# Altium schematic symbol library Ultrascale.SCHLIB: 117 symbols (part 1 of 3)
Pins are listed as number, name and electrical type; pins without a type are passive.

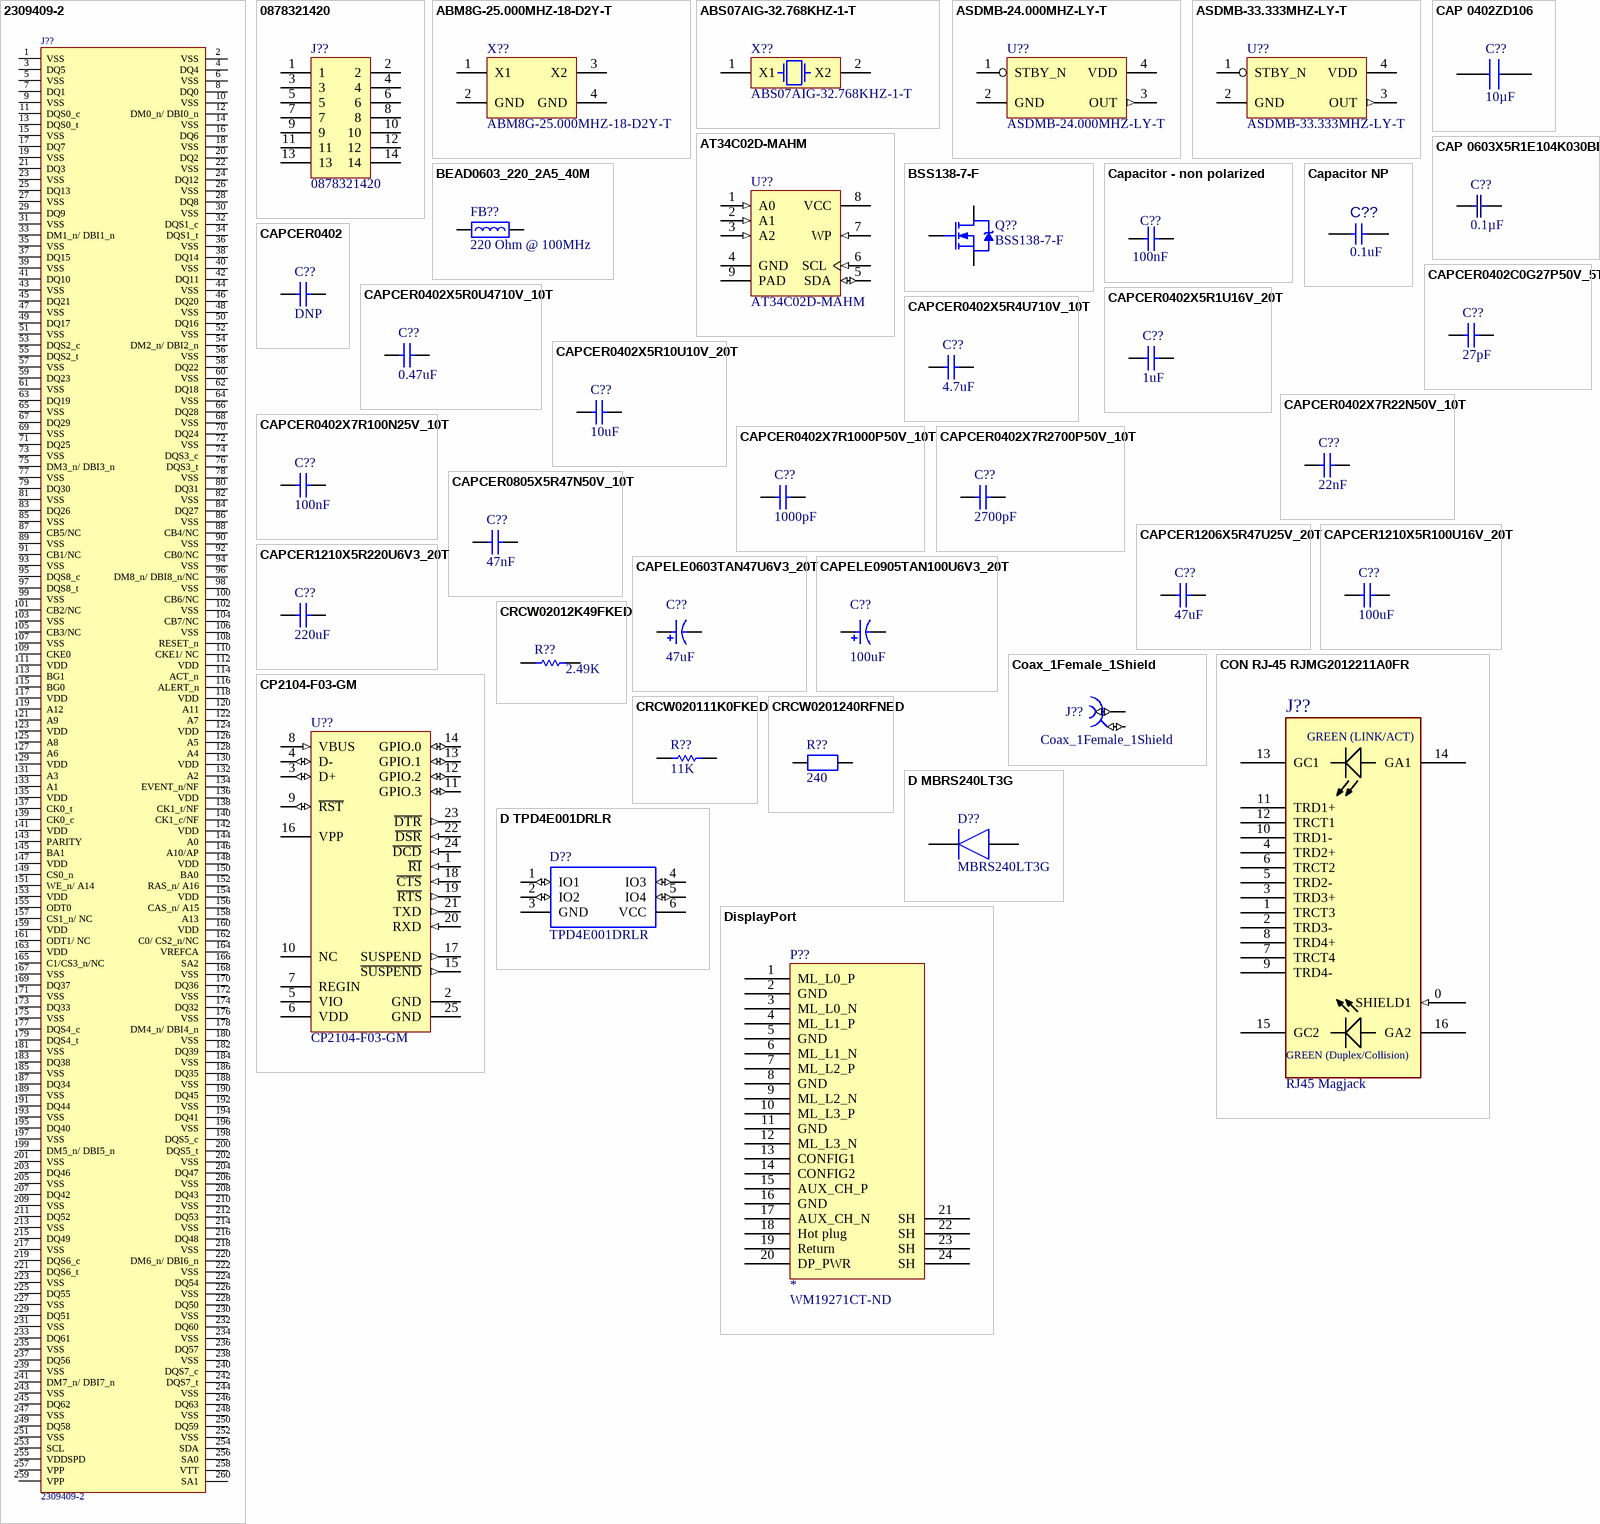
[diagram p0: symbols 2309409-2 to DisplayPort]

## 2309409-2
designator J??
DDR4 SODIMM 260P 5.2H STD; Manufacturer: TE CONNECTIVITY; ComponentLink1Description: Datasheet; ComponentLink1URL: C:\Users\Public\Documents\Altium\AD16\Library\PDF\ENG_CD_2309409_3.pdf; Operating Temperature: -55 – 85 °C; Height: 5.2mm; Manufacturer Part Number: 2309409-2
footprint DDR4_SODIMM_MATING (REF: TE 2309409-4)
pins: 1 VSS (power), 2 VSS (power), 3 DQ5 (power), 4 DQ4 (power), 5 VSS (power), 6 VSS (power), 7 DQ1 (power), 8 DQ0 (power), 9 VSS (power), 10 VSS (power), 11 DQS0_c (power), 12 DM0_n/ DBI0_n (power), 13 DQS0_t (power), 14 VSS (power), 15 VSS (power), 16 DQ6 (power), 17 DQ7 (power), 18 VSS (power), 19 VSS (power), 20 DQ2 (power), 21 DQ3 (power), 22 VSS (power), 23 VSS (power), 24 DQ12 (power), 25 DQ13 (power), 26 VSS (power), 27 VSS (power), 28 DQ8 (power), 29 DQ9 (power), 30 VSS (power), 31 VSS (power), 32 DQS1_c (power), 33 DM1_n/ DBI1_n (power), 34 DQS1_t (power), 35 VSS (power), 36 VSS (power), 37 DQ15 (power), 38 DQ14 (power), 39 VSS (power), 40 VSS (power), 41 DQ10 (power), 42 DQ11 (power), 43 VSS (power), 44 VSS (power), 45 DQ21 (power), 46 DQ20 (power), 47 VSS (power), 48 VSS (power), 49 DQ17 (power), 50 DQ16 (power), 51 VSS (power), 52 VSS (power), 53 DQS2_c (power), 54 DM2_n/ DBI2_n (power), 55 DQS2_t (power), 56 VSS (power), 57 VSS (power), 58 DQ22 (power), 59 DQ23 (power), 60 VSS (power), 61 VSS (power), 62 DQ18 (power), 63 DQ19 (power), 64 VSS (power), 65 VSS (power), 66 DQ28 (power), 67 DQ29 (power), 68 VSS (power), 69 VSS (power), 70 DQ24 (power), 71 DQ25 (power), 72 VSS (power), 73 VSS (power), 74 DQS3_c (power), 75 DM3_n/ DBI3_n (power), 76 DQS3_t (power), 77 VSS (power), 78 VSS (power), 79 DQ30 (power), 80 DQ31 (power), 81 VSS (power), 82 VSS (power), 83 DQ26 (power), 84 DQ27 (power), 85 VSS (power), 86 VSS (power), 87 CB5/NC (power), 88 CB4/NC (power), 89 VSS (power), 90 VSS (power), 91 CB1/NC (power), 92 CB0/NC (power), 93 VSS (power), 94 VSS (power), 95 DQS8_c (power), 96 DM8_n/ DBI8_n/NC (power), 97 DQS8_t (power), 98 VSS (power), 99 VSS (power), 100 CB6/NC (power), 101 CB2/NC (power), 102 VSS (power), 103 VSS (power), 104 CB7/NC (power), 105 CB3/NC (power), 106 VSS (power), 107 VSS (power), 108 RESET_n (power), 109 CKE0 (power), 110 CKE1/ NC (power), 111 VDD (power), 112 VDD (power), 113 BG1 (power), 114 ACT_n (power), 115 BG0 (power), 116 ALERT_n (power), 117 VDD (power), 118 VDD (power), 119 A12 (power), 120 A11 (power), 121 A9 (power), 122 A7 (power), 123 VDD (power), 124 VDD (power), 125 A8 (power), 126 A5 (power), 127 A6 (power), 128 A4 (power), 129 VDD (power), 130 VDD (power), 131 A3 (power), 132 A2 (power), 133 A1 (power), 134 EVENT_n/NF (power), 135 VDD (power), 136 VDD (power), 137 CK0_t (power), 138 CK1_t/NF (power), 139 CK0_c (power), 140 CK1_c/NF (power), 141 VDD (power), 142 VDD (power), 143 PARITY (power), 144 A0 (power), 145 BA1 (power), 146 A10/AP (power), 147 VDD (power), 148 VDD (power), 149 CS0_n (power), 150 BA0 (power), 151 WE_n/ A14 (power), 152 RAS_n/ A16 (power), 153 VDD (power), 154 VDD (power), 155 ODT0 (power), 156 CAS_n/ A15 (power), 157 CS1_n/ NC (power), 158 A13 (power), 159 VDD (power), 160 VDD (power), 161 ODT1/ NC (power), 162 C0/ CS2_n/NC (power), 163 VDD (power), 164 VREFCA (power), 165 C1/CS3_n/NC (power), 166 SA2 (power), 167 VSS (power), 168 VSS (power), 169 DQ37 (power), 170 DQ36 (power), 171 VSS (power), 172 VSS (power), 173 DQ33 (power), 174 DQ32 (power), 175 VSS (power), 176 VSS (power), 177 DQS4_c (power), 178 DM4_n/ DBI4_n (power), 179 DQS4_t (power), 180 VSS (power), 181 VSS (power), 182 DQ39 (power), 183 DQ38 (power), 184 VSS (power), 185 VSS (power), 186 DQ35 (power), 187 DQ34 (power), 188 VSS (power), 189 VSS (power), 190 DQ45 (power), 191 DQ44 (power), 192 VSS (power), 193 VSS (power), 194 DQ41 (power), 195 DQ40 (power), 196 VSS (power), 197 VSS (power), 198 DQS5_c (power), 199 DM5_n/ DBI5_n (power), 200 DQS5_t (power), 201 VSS (power), 202 VSS (power), 203 DQ46 (power), 204 DQ47 (power), 205 VSS (power), 206 VSS (power), 207 DQ42 (power), 208 DQ43 (power), 209 VSS (power), 210 VSS (power), 211 DQ52 (power), 212 DQ53 (power), 213 VSS (power), 214 VSS (power), 215 DQ49 (power), 216 DQ48 (power), 217 VSS (power), 218 VSS (power), 219 DQS6_c (power), 220 DM6_n/ DBI6_n (power), 221 DQS6_t (power), 222 VSS (power), 223 VSS (power), 224 DQ54 (power), 225 DQ55 (power), 226 VSS (power), 227 VSS (power), 228 DQ50 (power), 229 DQ51 (power), 230 VSS (power), 231 VSS (power), 232 DQ60 (power), 233 DQ61 (power), 234 VSS (power), 235 VSS (power), 236 DQ57 (power), 237 DQ56 (power), 238 VSS (power), 239 VSS (power), 240 DQS7_c (power), 241 DM7_n/ DBI7_n (power), 242 DQS7_t (power), 243 VSS (power), 244 VSS (power), 245 DQ62 (power), 246 DQ63 (power), 247 VSS (power), 248 VSS (power), 249 DQ58 (power), 250 DQ59 (power), 251 VSS (power), 252 VSS (power), 253 SCL (power), 254 SDA (power), 255 VDDSPD (power), 256 SA0 (power), 257 VPP (power), 258 VTT (power), 259 VPP (power), 260 SA1 (power)

## 0878321420
designator J??
CONN HEADER 14POS 2MM VERT SMD; Manufacturer: Molex, LLC; Number of Positions: 14; Supplier 1: Digi-Key; Pitch: 2mm; Number of Rows: 2; ComponentLink1URL: C:\Users\Public\Documents\Altium\AD16\Library\PDF\878322620_sd.pdf; ComponentLink1Description: Drawing; Supplier Part Number 1: 952-1809-ND; Manufacturer Part Number: 0878321420
footprint 0878321420 (CONN HEADER 14POS 2MM VERT SMD)
pins: 1 (power), 2 (power), 3 (power), 4 (power), 5 (power), 6 (power), 7 (power), 8 (power), 9 (power), 10 (power), 11 (power), 12 (power), 13 (power), 14 (power)

## ABM8G-25.000MHZ-18-D2Y-T
designator X??
CRYSTAL 25.0000MHZ 18PF SMD; Manufacturer: Abracon LLC; Frequency: 25MHz; Frequency Stability: ±30ppm; ComponentLink1Description: Datasheet; ComponentLink1URL: C:\Users\Public\Documents\Altium\AD16\Library\PDF\ABM8G.pdf; Supplier 1: Digi-Key; Supplier Part Number 1: 535-10275-1-ND; Operating Temperature: -40°C ~ 85°C; Load Capacitance: 18pF; Manufacturer Part Number: ABM8G-25.000MHZ-18-D2Y-T
footprint ABM8G (Abracon ABM8G Series Crystals)
pins: 1 X1, 2 GND, 3 X2, 4 GND

## ABS07AIG-32.768KHZ-1-T
designator X??
CRYSTAL 32.768KHZ 12.5PF SMD; Manufacturer: Abracon LLC; Frequency Tolerance: ±10ppm; ComponentLink1Description: Datasheet; ComponentLink1URL: C:\Users\Public\Documents\Altium\AD16\Library\PDF\ABS07.pdf; Supplier 1: Digi-Key; Supplier Part Number 1: 535-13352-1-ND; Operating Temperature: -40°C ~ 125°C; Load Capacitance: 12.5pF; Frequency: 32.768kHz; Manufacturer Part Number: ABS07AIG-32.768KHZ-1-T
footprint ABS07 (Abracon ABS07 Series Crystals)
pins: 1 X1, 2 X2

## ASDMB-24.000MHZ-LY-T
designator U??
OSC MEMS 24.000MHZ CMOS SMD; Manufacturer: Abracon LLC; Frequency: 24MHz; Frequency Stability: ±10ppm; ComponentLink1Description: Datasheet; ComponentLink1URL: C:\Users\Public\Documents\Altium\AD16\Library\PDF\ASDMB.pdf; Supplier 1: Digi-Key; Supplier Part Number 1: 535-11186-1-ND; Operating Temperature: -40°C ~ 85°C; Manufacturer Part Number: ASDMB-24.000MHZ-LY-T
footprint ASDMB (Abracon ASDMB Series Oscillators)
pins: 1 STBY_N, 2 GND, 3 OUT (out), 4 VDD

## ASDMB-33.333MHZ-LY-T
designator U??
OSC MEMS 33.333MHZ CMOS SMD; Manufacturer: Abracon LLC; Frequency Stability: ±10ppm; ComponentLink1Description: Datasheet; ComponentLink1URL: C:\Users\Public\Documents\Altium\AD16\Library\PDF\ASDMB.pdf; Supplier 1: Digi-Key; Supplier Part Number 1: 535-11196-1-ND; Operating Temperature: -40°C ~ 85°C; Frequency: 33.333MHz; Manufacturer Part Number: ASDMB-33.333MHZ-LY-T
footprint ASDMB (Abracon ASDMB Series Oscillators)
pins: 1 STBY_N, 2 GND, 3 OUT (out), 4 VDD

## AT34C02D-MAHM
designator U??
IC EEPROM 2KBIT 1MHZ 8UDFN; Manufacturer: Microchip Technology; Manufacturer Part Number: AT34C02D-MAHM-T; Code_JEDEC: MS-012-AA; Code_IPC: SOIC127P600-8; ComponentLink1Description: Datasheet; ComponentLink1URL: C:\Users\Public\Documents\Altium\AD16\Library\PDF\Atmel-8781-SEEPROM-AT34C02D-Datasheet.pdf; Supplier 1: Digikey; Supplier Part Number 1: AT34C02D-MAHM-TTR-ND; Operating Temperature: -40°C ~ 85°C (TA)
footprint UDFN_9 (UDFN, 8-Leads, Body 3x2mm, Pitch 0.5mm)
pins: 1 A0 (in), 2 A1 (in), 3 A2 (in), 4 GND (power), 5 SDA (io), 6 SCL (in), 7 WP (in), 8 VCC (power), 9 PAD (power)

## BEAD0603_220_2A5_40M
designator FB??  Impedance @ Frequency: 220 Ohm @ 100MHz
FERRITE BEAD 220 OHM 0603 1LN; Manufacturer: Murata Electronics North America; Manufacturer Part Number: BLM18SG221TN1D; Current Rating (Max): 2.5A; DC Resistance (DCR) (Max): 40 mohm; Package: 0603; ComponentLink1Description: Datasheet; ComponentLink1URL: C:\Users\Public\Documents\Altium\AD16\Library\PDF\ENFA0003.pdf; Supplier 1: Digi-Key; Supplier Part Number 1: 490-5225-1-ND; Operating Temperature: -55°C ~ 125°C
footprint INDC1608N_0603 (Chip Inductor, Body 1.6x0.8mm, IPC Medium Density)
pins: 1, 2

## BSS138-7-F
designator Q??
MOSFET N-CH 50V 200MA SOT23-3; Manufacturer: Diodes Incorporated; ComponentLink1Description: Datasheet; ComponentLink1URL: C:\Users\Public\Documents\Altium\AD16\Library\PDF\ds30144.pdf; Supplier 1: Digi-Key; Supplier Part Number 1: BSS138-FDICT-ND; Operating Temperature: -55°C ~ 150°C (TJ); Manufacturer Part Number: BSS138-7-F
footprint DIODES_SOT23 (SOT23, 3-Leads, Body 2.9x1.3 mm, Pitch 0.95 mm)
pins: D, G, S

## CAP 0402ZD106
designator C??, comment value 10µF  (hidden comment: 0402ZD106MAT2A)
CAP CER 10UF 10V X5R 0402; Manufacturer: AVX; Geometry.Height: 0.56mm; Detailed Description: 10µF ±20% 10V Ceramic Capacitor X5R 0402 (1005 Metric); Tolerance: ±20%; Datasheet Link: http://www.mouser.com/catalog/supplier/library/pdf/AVXSurfaceMountCeramic.pdf; Digi-Key Part Number: 478-10052-1-ND; Voltage - Rated: 10V; Temperature Coefficient: X5R; Operating Temperature: -55°C ~ 85°C; Mounting Type: Surface Mount, MLCC; Supplier 1: Digi-Key; Supplier Part Number 1: 478-10052-2-ND; Manufacturer Part Number: 0402ZD106MAT2A
footprint CAP 0402ZD106
pins: 1, 2

## CAP 0603X5R1E104K030BB
designator C??  value 0.1µF  (hidden comment: *)
CAP CER 0.1UF 25V 10% X5R 0201; Manufacturer: TDK Corporation; Manufacturer Part Number: C0603X5R1E104K030BB; Detailed Description: 0.1µF ±10% 25V Ceramic Capacitor X5R 0201 (0603 Metric); Digi-Key Part Number: 445-13671-1-ND; Tolerance: ±10%; Voltage - Rated: 25V; Temperature Coefficient: X5R; Operating Temperature: -55°C ~ 85°C; Features: Low ESL; Applications: General Purpose; Mounting Type: Surface Mount, MLCC; Supplier 1: Digi-Key; Supplier Part Number 1: 445-13671-1-ND
footprint CAP_0603
pins: 1, 2

## Capacitor - non polarized
designator C??, comment 100nF
Non-polarised capacitor CC0603_100NF_50V_10%_X7R; Part Description: SMD Multilayer Chip Ceramic Capacitor; Manufacturer: MULTICOMP; Manufacturer Part Number: MCB0603R104KCT; Manufacturer1 Part Number: 223858615649; Voltage: 50V; TC: X7R; Tolerance: ±10%; Table: Capacitors SMD; Voltage Rating: 16; Capacitance: 0.1; SVHC: No SVHC (17-Dec-2015); Ceramic Capacitor Case: 0603 [1608 Metric]; Dielectric Characteristic: X7; Product Range: MCB Series; Capacitance Tolerance: ± 10%; Capacitor Terminals: SMD; Part Number: CC0603_100NF_50V_10%_X7R; Component Kind: Standard; Component Type: Standard; Footprint: CAPC1608X87N; Pin Count: 2; Value: 100nF; Status: Preferred; Case: 0603; Mounted: Yes; Socket: No; SMD: Yes; Manufacturer1 Example: PHYCOMP; Manufacturer1 ComponentHeight: 0.87mm; HelpURL: \\cern.ch\dfs\Applications\Altium\Datasheets\CC0603_X7R_PHYCOMP.pdf; Author: CERN DEM JLC; CreateDate: 3.12.2007; LatestRevisionDate: 3.12.2007; RoHS: YES; Packaging: Cut Tape; Operating Temperature Min: -55; MSL: -; Supplier Part Number: 9406140; Operating Temperature Range: -55°C to +125°C<!--FANDB--><div class="features-and-benefits-container"><div class="features-and-benefits-description"><span class="features-benefits-value">The MCB0603R104KCT is a multilayer Ceramic Capacitor with 0603 chip, for general digital circuit. Consists of a conducting material and electrodes. To manufacture a chip-type SMT and achieve miniaturization, high density and high efficiency, ceramic condensers are used. MLCC is made by X7; Supplier: Farnell; Capacitance Tolerance ±: ± 10%; Operating Temperature Max: 125
footprint CAPC1608X87N
pins: 1, 2

## Capacitor NP
designator C??  value 0.1uF  (hidden comment: Capacitor NP)
Capacitor; Manufacturer: TDK Corporation; Manufacturer Part Number: C1005X7R1H104K050BB; MCHP-ID: CAP1463; Voltage: 50V; Description_: CAP CER 0.1uF 50V 10% X7R SMD 0402; Dev Tools Status: Design; Tolerance: 10%; Temperature Coeffcient: X7R; Type: Ceramic; Owner: Jamus Griego; Populated: YES; Package: 0402; Revision: A; Status: MCL Design; ComponentLink1URL: https://chn-vm-apps.microchip.com/mchprepo/parts/Datasheets/TDKMLCCCapRange.pdf; ComponentLink1Description: Datasheets; Operating Temperature: -55C to +125C; Category: Capacitor; Supplier 1: Digi-Key; Supplier Part Number 1: 445-5932-1-ND; Quantity Override: 1
footprint CAP_C_0402 (Chip Capacitor 2-Leads, Body 1.6x0.8mm, IPC Medium Density)
pins: 1, 2

## CAPCER0402
designator C??, comment DNP
0402 Package Cap Footprint; Manufacturer Part Number: CAPCER0402; Package: 0402; ComponentLink1Description: Datasheet; Value: DNP
simulation model CAP (Capacitor)
signal-integrity model Cap
footprint CAPC1005L_0402 (Chip Capacitor, Body 1.0x0.5mm, IPC High Density)
pins: 1, 2

## CAPCER0402C0G27P50V_5T
designator C??, comment 27pF
CAP CER 27PF 50V C0G/NP0 0402; Manufacturer: Murata Electronics North America; Manufacturer Part Number: GRM1555C1H270JA01D; Tolerance: 5%; Package: 0402; ComponentLink1Description: Datasheet; Value: 27pF; Voltage: 50V; Temperature Coefficient: C0G/NP0; Supplier 1: Digi-Key; Supplier Part Number 1: 490-5869-1-ND; Operating Temperature: -55°C ~ 125°C
simulation model CAP (Capacitor)
signal-integrity model Cap
footprint CAPC1005L_0402 (Chip Capacitor, Body 1.0x0.5mm, IPC High Density)
pins: 1, 2

## CAPCER0402X5R0U4710V_10T
designator C??, comment 0.47uF
CAP CER 0.47UF 10V X5R 0402; Manufacturer: Murata Electronics North America; Manufacturer Part Number: GRM155R61A474KE15D; Tolerance: 10%; Package: 0402; ComponentLink1Description: Datasheet; Value: 0.47uF; Voltage: 10V; Temperature Coefficient: X5R; Supplier 1: Digi-Key; Supplier Part Number 1: 490-3264-1-ND; Operating Temperature: -55°C ~ 85°C
simulation model CAP (Capacitor)
signal-integrity model Cap
footprint CAPC1005L_0402 (Chip Capacitor, Body 1.0x0.5mm, IPC High Density)
pins: 1, 2

## CAPCER0402X5R1U16V_20T
designator C??, comment 1uF
CAP CER 1UF 16V X5R 0402; Manufacturer: Murata Electronics North America; Manufacturer Part Number: GRM155R61C105ME01D; Tolerance: 20%; Package: 0402; ComponentLink1Description: Datasheet; Value: 1uF; Voltage: 16V; Temperature Coefficient: X5R; Supplier 1: Digi-Key; Supplier Part Number 1: 490-10454-1-ND; Operating Temperature: -55°C ~ 85°C
simulation model CAP (Capacitor)
signal-integrity model Cap
footprint CAPC1005L_0402 (Chip Capacitor, Body 1.0x0.5mm, IPC High Density)
pins: 1, 2

## CAPCER0402X5R4U710V_10T
designator C??, comment 4.7uF
CAP CER 4.7UF 10V X5R 0402; Manufacturer: TDK Corporation; Manufacturer Part Number: C1005X5R1A475K050BC; Tolerance: 10%; Package: 0402; ComponentLink1Description: Datasheet; Value: 4.7uF; Voltage: 10V; Temperature Coefficient: x5R; Supplier 1: Digi-Key; Supplier Part Number 1: 445-13820-1-ND; Operating Temperature: -55°C ~ 85°C
simulation model CAP (Capacitor)
signal-integrity model Cap
footprint CAPC1005L_0402 (Chip Capacitor, Body 1.0x0.5mm, IPC High Density)
pins: 1, 2

## CAPCER0402X5R10U10V_20T
designator C??, comment 10uF
CAP CER 10UF 10V X5R 0402; Manufacturer: Samsung Electro-Mechanics America, Inc.; Manufacturer Part Number: CL05A106MP5NUNC; Tolerance: 20%; Package: 0402; ComponentLink1Description: Datasheet; Value: 10uF; Voltage: 10V; Temperature Coefficient: X5R; Supplier 1: Digi-Key; Supplier Part Number 1: 1276-1450-1-ND; Operating Temperature: -55°C ~ 85°C
simulation model CAP (Capacitor)
signal-integrity model Cap
footprint CAPC1005L_0402 (Chip Capacitor, Body 1.0x0.5mm, IPC High Density)
pins: 1, 2

## CAPCER0402X7R22N50V_10T
designator C??, comment 22nF
CAP CER 0.022UF 50V X7R 0402; Manufacturer: Murata Electronics North America; Manufacturer Part Number: GRM155R71H223KA12D; Tolerance: 10%; Package: 0402; ComponentLink1Description: Datasheet; Value: 22nF; Voltage: 50V; Temperature Coefficient: X7R; Supplier 1: Digi-Key; Supplier Part Number 1: 490-3884-1-ND; Operating Temperature: -55°C ~ 125°C
simulation model CAP (Capacitor)
signal-integrity model Cap
footprint CAPC1005L_0402 (Chip Capacitor, Body 1.0x0.5mm, IPC High Density)
pins: 1, 2

## CAPCER0402X7R100N25V_10T
designator C??, comment 100nF
CAP CER 0.1UF 25V X7R 0402; Manufacturer: Murata Electronics North America; Manufacturer Part Number: GRM155R71E104KE14D; Tolerance: 10%; Package: 0402; ComponentLink1Description: Datasheet; Value: 100nF; Voltage: 25V; Temperature Coefficient: X7R; Supplier 1: Digi-Key; Supplier Part Number 1: 490-10698-1-ND; Operating Temperature: -55°C ~ 125°C
simulation model CAP (Capacitor)
signal-integrity model Cap
footprint CAPC1005L_0402 (Chip Capacitor, Body 1.0x0.5mm, IPC High Density)
pins: 1, 2

## CAPCER0402X7R1000P50V_10T
designator C??, comment 1000pF
CAP CER 1000PF 50V X7R 0402; Manufacturer: Murata Electronics North America; Manufacturer Part Number: GRM155R71H102KA01D; Tolerance: 10%; Package: 0402; ComponentLink1Description: Datasheet; Value: 1000pF; Voltage: 50V; Temperature Coefficient: X7R; Supplier 1: Digi-Key; Supplier Part Number 1: 490-1303-1-ND; Operating Temperature: -55°C ~ 125°C
simulation model CAP (Capacitor)
signal-integrity model Cap
footprint CAPC1005L_0402 (Chip Capacitor, Body 1.0x0.5mm, IPC High Density)
pins: 1, 2

## CAPCER0402X7R2700P50V_10T
designator C??, comment 2700pF
CAP CER 2700PF 50V X7R 0402; Manufacturer: Murata Electronics North America; Manufacturer Part Number: GRM155R71H272KA01D; Tolerance: 10%; Package: 0402; ComponentLink1Description: Datasheet; Value: 2700pF; Voltage: 50V; Temperature Coefficient: X7R; Supplier 1: Digi-Key; Supplier Part Number 1: 490-1306-1-ND; Operating Temperature: -55°C ~ 125°C
simulation model CAP (Capacitor)
signal-integrity model Cap
footprint CAPC1005L_0402 (Chip Capacitor, Body 1.0x0.5mm, IPC High Density)
pins: 1, 2

## CAPCER0805X5R47N50V_10T
designator C??, comment 47nF
CAP CER 0.047UF 50V X7R 0805; Manufacturer: Kemet; Manufacturer Part Number: C0805C473K5RACTU; Tolerance: 10%; Package: 0805; ComponentLink1Description: Datasheet; Value: 47nF; Voltage: 50V; Temperature Coefficient: X7R; Supplier 1: Digi-Key; Supplier Part Number 1: 399-1166-1-ND; Operating Temperature: -55°C ~ 125°C
simulation model CAP (Capacitor)
signal-integrity model Cap
footprint CAPC2012L_0805 (Chip Capacitor, Body 2.0x1.3mm, IPC High Density)
pins: 1, 2

## CAPCER1206X5R47U25V_20T
designator C??, comment 47uF
CAP CER 47UF 25V X5R 1206; Manufacturer: TDK Corporation; Manufacturer Part Number: C3216X5R1E476M160AC; Tolerance: 20%; Package: 1206; ComponentLink1Description: Datasheet; Value: 47uF; Voltage: 25V; Temperature Coefficient: X5R; Supplier 1: Digi-Key; Supplier Part Number 1: 445-8047-1-ND; Operating Temperature: -55°C ~ 85°C
simulation model CAP (Capacitor)
signal-integrity model Cap
footprint CAPC3216L_1206 (Chip Capacitor, Body 3.2x1.6mm, IPC High Density)
pins: 1, 2

## CAPCER1210X5R100U16V_20T
designator C??, comment 100uF
CAP CER 100UF 16V X5R 1210; Manufacturer: Taiyo Yuden; Manufacturer Part Number: EMK325ABJ107MM-T; Tolerance: 20%; Package: 1210; ComponentLink1Description: Datasheet; Value: 100uF; Voltage: 16V; Temperature Coefficient: X5R; Supplier 1: Digi-Key; Supplier Part Number 1: 587-3152-1-ND; Operating Temperature: -55°C ~ 85°C
simulation model CAP (Capacitor)
signal-integrity model Cap
footprint CAPC3225N_1210 (Chip Capacitor, Body 3.2x2.5mm, IPC Medium Density)
pins: 1, 2

## CAPCER1210X5R220U6V3_20T
designator C??, comment 220uF
CAP CER 220UF 6.3V X5R 1210; Manufacturer: Samsung Electro-Mechanics America, Inc.; Manufacturer Part Number: CL32A227MQVNNNE; Tolerance: 20%; Package: 1210; ComponentLink1Description: Datasheet; Value: 220uF; Voltage: 6.3V; Temperature Coefficient: X5R; Supplier 1: Digi-Key; Supplier Part Number 1: 1276-3375-1-ND; Operating Temperature: -55°C ~ 85°C
simulation model CAP (Capacitor)
signal-integrity model Cap
footprint CAPC3225N_1210 (Chip Capacitor, Body 3.2x2.5mm, IPC Medium Density)
pins: 1, 2

## CAPELE0603TAN47U6V3_20T
designator C??, comment 47uF
CAP TANT POLY 47UF 6.3V SMD; Manufacturer: AVX Corporation; Manufacturer Part Number: F380J476MMAAXE; Tolerance: 20%; Temperature Coefficient: Tantalum; ESR: 300 mOhm; Package: 0603 M; ComponentLink1Description: Datasheet; ComponentLink1URL: C:\Users\Public\Documents\Altium\AD16\Library\PDF\f38.pdf; Value: 47uF; Voltage: 6.3V; Supplier 1: Digi-Key; Supplier Part Number 1: 478-9399-1-ND; Operating Temperature: -55°C ~ 105°C
simulation model CAP (Capacitor)
signal-integrity model Cap
footprint AVX_TAN_F38_M_0603 (AVX F38 Series Tantalum Cap. M Package)
pins: 1, 2

## CAPELE0905TAN100U6V3_20T
designator C??, comment 100uF
CAP TANT 100UF 6.3V 20% 0805; Manufacturer: AVX Corporation; Manufacturer Part Number: F950J107MPAAQ2; Temperature Coefficient: Tantalum; ESR: 1.2 Ohm; Package: 0905 P; ComponentLink1Description: Datasheet; ComponentLink1URL: C:\Users\Public\Documents\Altium\AD16\Library\PDF\F95.pdf; Value: 100uF; Voltage: 6.3V; Tolerance: 20%; Supplier 1: Digi-Key; Supplier Part Number 1: 478-8393-1-ND; Operating Temperature: -55°C ~ 125°C
simulation model CAP (Capacitor)
signal-integrity model Cap
footprint AVX_TAN_F95_P_0905 (AVX F95 Series Tantalum Cap. P Package)
pins: 1, 2

## Coax_1Female_1Shield
designator J??
Part Number: HUBER-SUHNER_82_SMA-50-0-41/133_NE; Part Description: SMA 50 Ohms Straight PCB Jack; Manufacturer: AMPHENOL CONNEX; Manufacturer Part Number: 132134; Table: Miscellaneous; Component Kind: Standard; Component Type: Standard; Footprint: HUBER-SUHNER_82 SMA-50-0-41/133 NE; Pin Count: 2; Family: SMA; Mounted: Yes; Socket: No; SMD: No; Status: None; ComponentHeight: 9.6mm; HelpURL: \\cern.ch\dfs\Applications\Altium\Datasheets\HUBER-SUHNER_82 SMA-50-0-41-133 NE.pdf; Author: CERN DEM JLC; CreateDate: 20.04.2010; LatestRevisionDate: 27.04.2010; Supplier: Farnell; RoHS: YES; Supplier Part Number: 2112465
footprint HUBER-SUHNER_82 SMA-50-0-41/133 NE
pins: 1 (io), 2 (io)

## CON RJ-45 RJMG2012211A0FR
designator J??, comment RJ45 Magjack
CON RJ-45 RJMG2012211A0FR; Manufacturer: Amphenol Commercial Products; Populated: Yes; Description_: CON MODULAR RJ45 MAGJACK TH R/A; RoHS: RoHS Compliant; ComponentLink1URL: https://www.amphenolcanada.com/ProductSearch/Drawings/AC/RJMG2012211A0FR.PDF; ComponentLink1Description: Datasheet; Supplier 1: Digikey; Supplier Part Number 1: RJMG2012211A0FR-ND; Value: RJ45 Magjack; Manufacturer Part Number: RJMG2012211A0FR
footprint CON_MODULAR_RJ45_TH_RA_RJMG2012211A0FR
pins: 0 SHIELD1 (in), 1 TRCT3, 2 TRD3-, 3 TRD3+, 4 TRD2+, 5 TRD2-, 6 TRCT2, 7 TRCT4, 8 TRD4+, 9 TRD4-, 10 TRD1-, 11 TRD1+, 12 TRCT1, 13 GC1, 14 GA1, 15 GC2, 16 GA2
text: GREEN (LINK/ACT); GREEN (Duplex/Collision)

## CP2104-F03-GM
designator U??
Single-Chip USB to UART Bridge, 4 Dig I/O Pins, Internal Oscillator, 1024 Bytes EEPROM, -40 to 85 degC, 24-pin QFN; Manufacturer: Silicon Labs; Internal Oscillator: TRUE; Sub-Family: USB Bridges; DatasheetVersion: Rev. 1.0; PackageReference: QFN-24; PackageDescription: 24-Pin Quad-Flat No-Leads Package, Body 4 x 4 mm, Pitch 0.5 mm; Supplier 1: Digi-Key; Supplier Part Number 1: 336-2008-5-ND; Supplier 2: Mouser; Supplier Part Number 2: 634-CP2104-F03-GM; EEPROM: 1024 Bytes; Mounting Technology: Surface Mount; Code_JEDEC: MO-220; Code_IPC: J-STD-020; ComponentLink1Description: Manufacturer URL; ComponentLink1URL: http://www.silabs.com/; ComponentLink2Description: Datasheet; ComponentLink2URL: C:\Users\Public\Documents\Altium\AD16\Library\PDF\cp2104.pdf; ComponentLink3Description: Package Specification; ComponentLink3URL: http://www.silabs.com/Support%20Documents/TechnicalDocs/C8051F93x-92x.pdf; Operating Temperature: -40°C ~ 85°C; Manufacturer Part Number: CP2104-F03-GM
footprint SLAB-QFN-24-2675x2675TP_L (QFN, 24-Leads, Body 4x4mm, Pitch 0.5mm, Thermal Pad 2.68x2.68mm, IPC High Density)
pins: 1 ~{RI} (in) "Ring Indicator control input (active low)", 2 GND (power) "Ground. Must be tied to ground.", 3 D+ (io) "USB D+", 4 D- (io) "USB D-", 5 VIO (power) "I/O Supply Voltage Input.", 6 VDD (power) "Power Supply Voltage Input. Voltage Regulator Output. See Section 9.", 7 REGIN (power) "5 V Regulator Input. This pin is the input to the on-chip voltage regulator.", 8 VBUS (in) "VBUS Sense Input. This pin should be connected to the VBUS signal of a USB network.", 9 ~{RST} (io) "Device Reset. Open-drain output of internal POR or VDD monitor. An external source can initiate a system reset by driving this pin low for the time specified in Table 4.", 10 NC "This pin should be left unconnected or tied to VIO.", 11 GPIO.3 (io) "User-configurable input or output.", 12 GPIO.2 (io) "User-configurable input or output.", 13 GPIO.1 (io) "User-configurable input or output.", 14 GPIO.0 (io) "User-configurable input or output.", 15 ~{SUSPEND} (out) "This pin is logic low when the CP2104 is in the USB Suspend state.", 16 VPP "Connect a 4.7 uF capacitor between this pin and ground to support ROM programming via USB interface.", 17 SUSPEND (out) "This pin is logic high when the CP2104 is in the USB Suspend state.", 18 ~{CTS} (in) "Clear to Send control input (active low)", 19 ~{RTS} (out) "Ready to Send control output (active low)", 20 RXD (in) "Asynchronous data input (UART Receive)", 21 TXD (out) "Asynchronous data output (UART Transmit)", 22 ~{DSR} (in) "Data Set Ready control input (active low)", 23 ~{DTR} (out) "Data Terminal Ready control output (active low)", 24 ~{DCD} (in) "Data Carrier Detect control input (active low)", 25 GND (power)

## CRCW02012K49FKED
designator R??  value 2.49K  (hidden comment: CRCW02012K49FKED)
RES 2.49K OHM 0201 1% 1/20W; Manufacturer: Vishay; Resistance_In_Ohms: 22.0; Power_(Watts): 0.05W, 1/20W; Tolerance: Â±1%; Lead_Style: Surface Mount (SMD - SMT); Voltage_-_Working: 30V; Temperature_Coefficient: Â±200ppm/Â°C; C: Copyright (C) 2015 Accelerated Designs. All rights reserved; Digi-Key Part Number: 541-2.49KAABCT-ND; Manufacturer Part Number: CRCW02012K49FKED; Quantity_Available: 0; Copyright: Copyright (C) 2015 Accelerated Designs. All rights reserved; DataSheet: http://www.vishay.com/doc?20035; Case: 0201 (0603 metric); Packaging: Tape &amp; Reel (TR); Composition: Thick Film; Supplier 1: Digi-Key; Supplier Part Number 1: 541-2.49KAABCT-ND
footprint RC0201N
pins: 1, 2

## CRCW020111K0FKED
designator R??  value 11K  (hidden comment: CRCW020111K0FKED)
RES 11.0K OHM 0201 1% 1/20W; Manufacturer: Vishay; C: Copyright (C) 2015 Accelerated Designs. All rights reserved; Manufacturer Part Number: CRCW020111K0FKED; Copyright: Copyright (C) 2015 Accelerated Designs. All rights reserved; Supplier 1: Digi-Key; Supplier Part Number 1: 541-11.0KAABCT-ND
footprint RES_V0201
pins: 1, 2

## CRCW0201240RFNED
designator R??  value 240  (hidden comment: CRCW0201240RFNED)
VISHAY - CRCW0201240RFNED - RES, THICK FILM, 240R, 1%, 0.05W, 0201; Geometry.Height: 0.28mm; Supplier_Name: RS; RS Part Number: *; Manufacturer: Vishay; Manufacturer Part Number: CRCW0201240RFNED; Allied_Number: *; Other Part Number: *; Datasheet Link: http://www.vishay.com/docs/20035/dcrcwe3.pdf; 3D Package: *; Supplier 1: Digi-Key; Supplier Part Number 1: 541-2949-1-ND
footprint RESC0603X28N
pins: 1, 2

## D MBRS240LT3G
designator D??, comment MBRS240LT3G
DIODE SCHOTTKY 40V 2A SMB; Manufacturer: ON Semiconductor; Allied_Number: 70099506; Geometry.Height: 2.47mm; Supplier_Name: RS; RS Part Number: 1022262; Other Part Number: *; Datasheet Link: http://www.onsemi.com/pub/Collateral/MBRS240LT3-D.PDF; 3D Package: *; Supplier 1: Digi-Key; Supplier Part Number 1: MBRS240LT3GOSCT-ND; Manufacturer Part Number: MBRS240LT3G
footprint DIOM5436X247N
pins: 1 K, 2 A

## D TPD4E001DRLR
designator D??, comment TPD4E001DRLR
Low-Capacitance 4-Channel +/-15-kV ESD Protection Array for High-Speed Data Interfaces; Manufacturer: Texas Instruments; Geometry.Height: 0.6mm; Type: Steering; Unidirectional Channels: 4; Voltage - Reverse Standoff (Typ): 5.5V (Max); Voltage - Breakdown (Min): 11V; Power - Peak Pulse: 100W; Power Line Protection: Yes; Datasheet Link: http://www.ti.com/lit/ds/symlink/tpd4e001.pdf; Digi-Key Part Number: 296-21887-1-ND; Applications: Ethernet; Operating Temperature: -40°C ~ 85°C (TA); Mounting Type: Surface Mount; Package / Case: SOT-563, SOT-666; Supplier Device Package: 6-SOT; Supplier 1: Digi-Key; Supplier Part Number 1: 296-21887-1-ND; Manufacturer Part Number: TPD4E001DRLR
footprint SOTFL50P160X60-6N
pins: 1 IO1 (io), 2 IO2 (io), 3 GND, 4 IO3 (io), 5 IO4 (io), 6 VCC (power)

## DisplayPort
designator P??  Supplier Part Number 1: WM19271CT-ND
CONN RCPT 20POS UDI R/A SMD; Manufacturer: Molex, LLC; Manufacturer Part Number: 0472720001; Detailed Description: DisplayPort Receptacle Connector 20 Position Surface Mount, Right Angle; Through Hole; Connector Type: DisplayPort; Number of Contacts: 20; Gender: Receptacle; Number of Ports: 1; Current Rating: 0.5A; Voltage - Rated: 40VAC; Mating Cycles: 10000; Shielding: Shielded; Material Flammability Rating: UL94 V-0; Digi-Key Part Number: WM19271CT-ND; Series: 47272; Specifications: -; Mounting Type: Surface Mount, Right Angle; Through Hole; Mounting Feature: Horizontal; Termination: Solder; Features: Board Guide, Latch Lock; Ingress Protection: -; Operating Temperature: -20°C ~ 85°C; Contact Finish: Gold; Shell/Shielding Material: Steel, Stainless; Insulation Color: Black; Supplier 1: Digi-Key
footprint 8470-2-2-X
pins: 1 ML_L0_P (power), 2 GND (power), 3 ML_L0_N (power), 4 ML_L1_P (power), 5 GND (power), 6 ML_L1_N (power), 7 ML_L2_P (power), 8 GND (power), 9 ML_L2_N (power), 10 ML_L3_P (power), 11 GND (power), 12 ML_L3_N (power), 13 CONFIG1 (power), 14 CONFIG2 (power), 15 AUX_CH_P (power), 16 GND (power), 17 AUX_CH_N (power), 18 Hot plug (power), 19 Return (power), 20 DP_PWR (power), 21 SH (power), 22 SH (power), 23 SH (power), 24 SH (power)

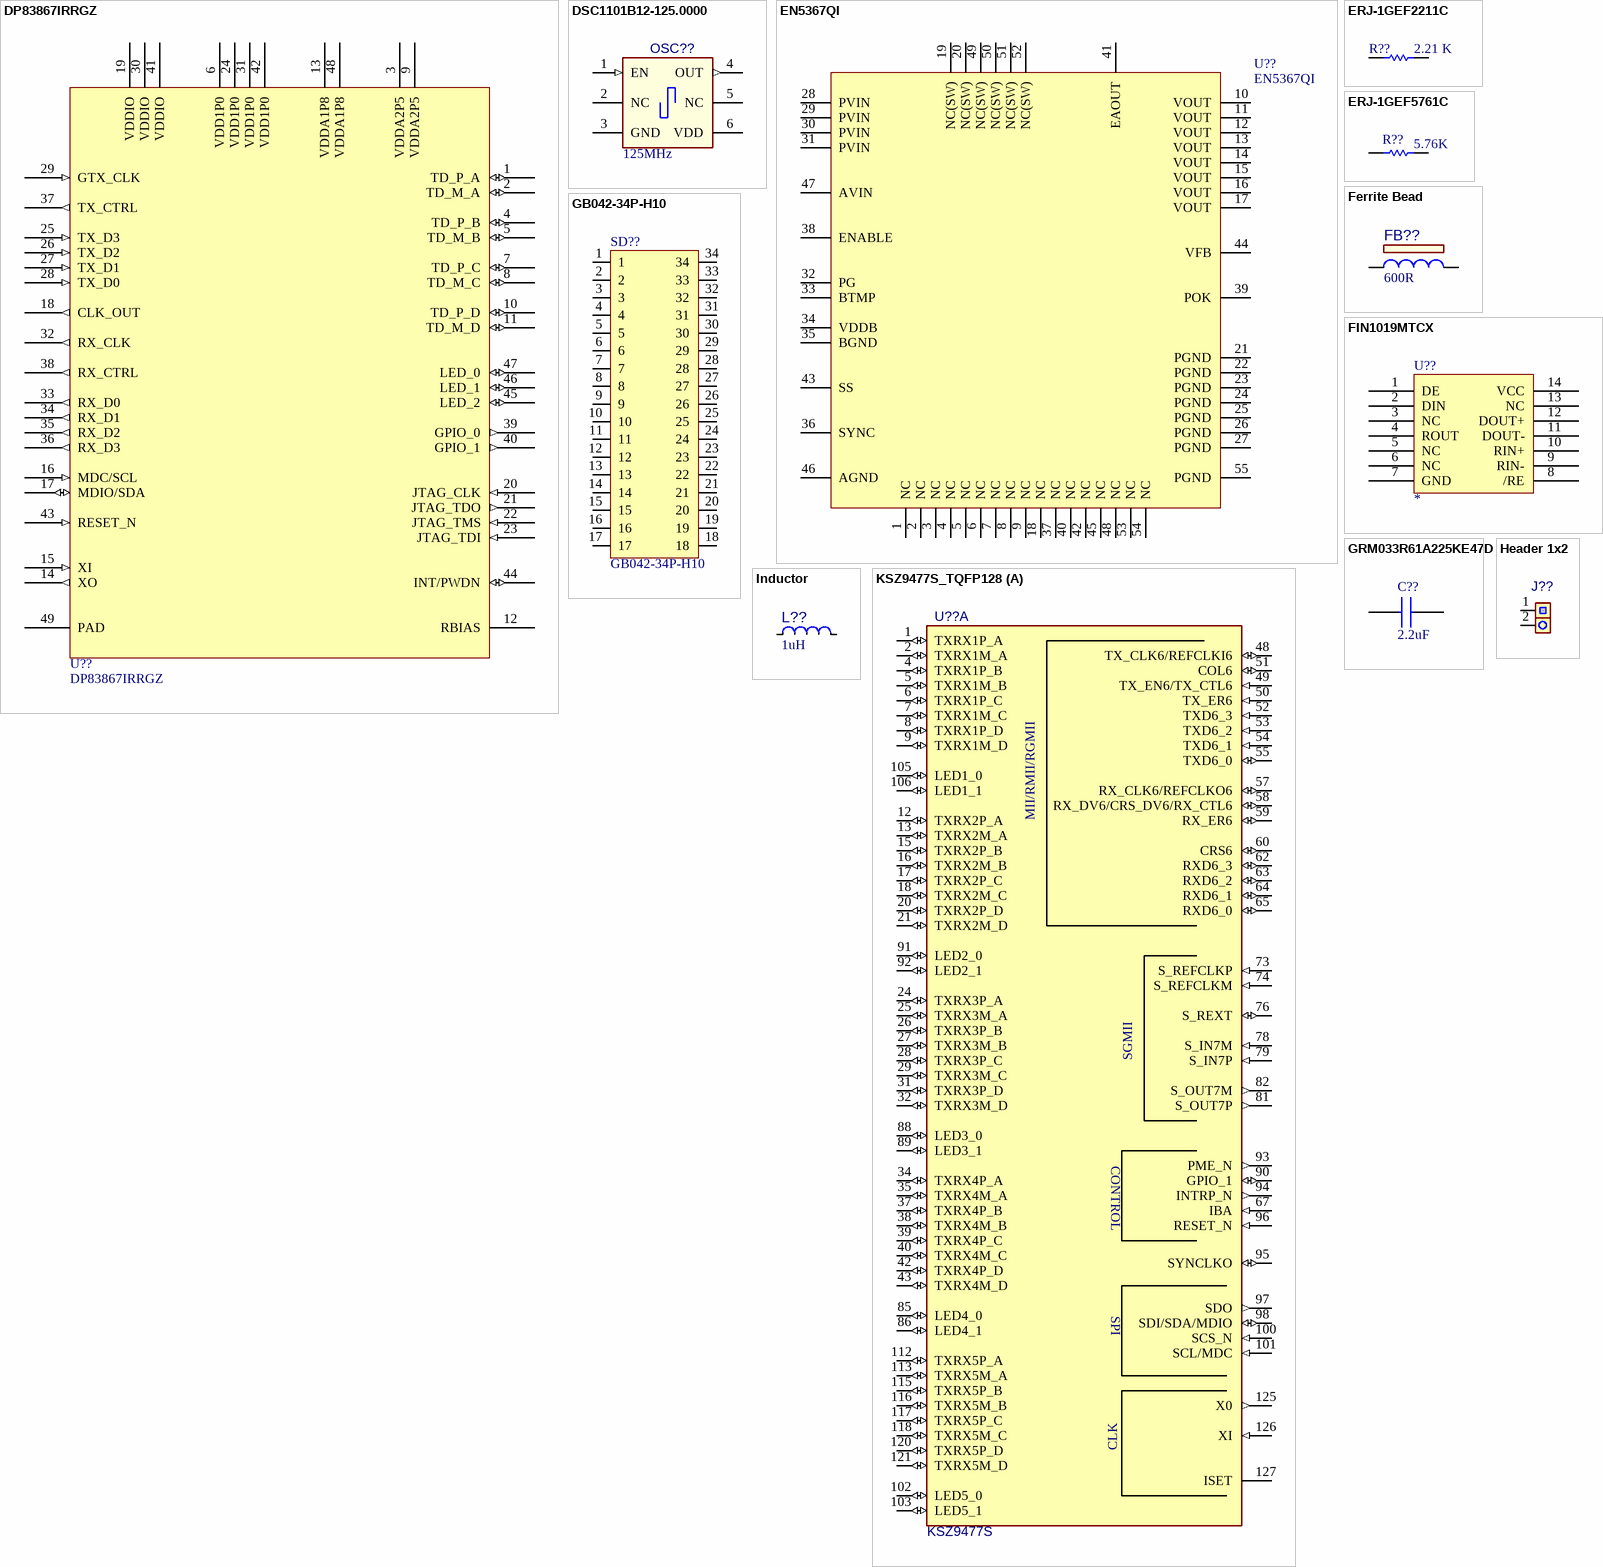
[diagram p1: symbols DP83867IRRGZ to KSZ9477S_TQFP128]

## DP83867IRRGZ
designator U??
IC ETHERNET PHY 48VQFN; Manufacturer: Texas Instruments; Manufacturer Part Number: DP83867IRRGZT; ComponentLink1Description: Datasheet; ComponentLink1URL: C:\Users\Public\Documents\Altium\AD16\Library\PDF\dp83867ir.pdf; Supplier 1: Digi-Key; Supplier Part Number 1: 296-47204-1-ND; Operating Temperature: -40°C ~ 85°C
footprint QFN50P700X700X100_HS-49N (QFN, 48-Leads, Body 7.00x7.00mm, Pitch 0.50mm, Thermal Pad 4.08x4.08mm, IPC Medium Density)
pins: 1 TD_P_A (io), 2 TD_M_A (io), 3 VDDA2P5, 4 TD_P_B (io), 5 TD_M_B (io), 6 VDD1P0, 7 TD_P_C (io), 8 TD_M_C (io), 9 VDDA2P5, 10 TD_P_D (io), 11 TD_M_D (io), 12 RBIAS, 13 VDDA1P8, 14 XO (out), 15 XI (in), 16 MDC/SCL (in), 17 MDIO/SDA (io), 18 CLK_OUT (out), 19 VDDIO, 20 JTAG_CLK (in), 21 JTAG_TDO (out), 22 JTAG_TMS (in), 23 JTAG_TDI (in), 24 VDD1P0, 25 TX_D3 (in), 26 TX_D2 (in), 27 TX_D1 (in), 28 TX_D0 (in), 29 GTX_CLK (in), 30 VDDIO, 31 VDD1P0, 32 RX_CLK (out), 33 RX_D0 (out), 34 RX_D1 (out), 35 RX_D2 (out), 36 RX_D3 (out), 37 TX_CTRL (out), 38 RX_CTRL (out), 39 GPIO_0 (out), 40 GPIO_1 (out), 41 VDDIO, 42 VDD1P0, 43 RESET_N (in), 44 INT/PWDN (io), 45 LED_2 (io), 46 LED_1 (io), 47 LED_0 (io), 48 VDDA1P8, 49 PAD

## DSC1101B12-125.0000
designator OSC??  Frequency: 125MHz
OSC MEMS 125.000MHZ CMOS SMD; Manufacturer: Micrel; Manufacturer Part Number: DSC1101BI2-125.0000; Populated: Yes; Supplier 1: Digi-Key; Category: Crystals and Oscillators; ComponentLink1URL: http://www.ctscorp.com/components/Datasheets/008-0256-0.pdf; ComponentLink1Description: Datasheet; Description_: OSC MEMS 125.000MHZ CMOS SMD; RoHS: RoHS Compliant; Package: 5.0mm x 3.2mm
footprint OSC_5MX3M2_A (Oscillator 5x3.2mm 6 pin, 4 physical pins (2 & 5 removed))
pins: 1 EN (in), 2 NC, 3 GND, 4 OUT (out), 5 NC, 6 VDD (power)

## EN5367QI
designator U??
DC/DC CONVERTER 0.6-4.9V 29W; Manufacturer: Altera; Voltage - Output: 0.6 ~ 4.9 V; Voltage - Input: 2.5V - 5.5V; ComponentLink1Description: Datasheet; ComponentLink1URL: C:\Users\Public\Documents\Altium\AD16\Library\PDF\en5367qi_07013.pdf; Supplier 1: Digi-Key; Supplier Part Number 1: 544-2858-1-ND; Operating Temperature: -40°C ~ 85°C; Manufacturer Part Number: EN5367QI
footprint QFN54-EN5367QI (Enpirion QFN-54 (EN5367QI))
pins: 1 NC (power), 2 NC (power), 3 NC (power), 4 NC (power), 5 NC (power), 6 NC (power), 7 NC (power), 8 NC (power), 9 NC (power), 10 VOUT (power), 11 VOUT (power), 12 VOUT (power), 13 VOUT (power), 14 VOUT (power), 15 VOUT (power), 16 VOUT (power), 17 VOUT (power), 18 NC (power), 19 NC(SW) (power), 20 NC(SW) (power), 21 PGND (power), 22 PGND (power), 23 PGND (power), 24 PGND (power), 25 PGND (power), 26 PGND (power), 27 PGND (power), 28 PVIN (power), 29 PVIN (power), 30 PVIN (power), 31 PVIN (power), 32 PG (power), 33 BTMP (power), 34 VDDB (power), 35 BGND (power), 36 SYNC (power), 37 NC (power), 38 ENABLE (power), 39 POK (power), 40 NC (power), 41 EAOUT (power), 42 NC (power), 43 SS (power), 44 VFB (power), 45 NC (power), 46 AGND (power), 47 AVIN (power), 48 NC (power), 49 NC(SW) (power), 50 NC(SW) (power), 51 NC(SW) (power), 52 NC(SW) (power), 53 NC (power), 54 NC (power), 55 PGND (power)

## ERJ-1GEF2211C
designator R??  value 2.21 K  (hidden comment: *)
RES 2.21K OHM 0201 1% 1/20W; Manufacturer: Panasonic; Manufacturer Part Number: ERJ-1GEF2211C; Resistance_In_Ohms: 0.0; Power_(Watts): 0.05W, 1/20W; Tolerance: Jumper; Lead_Style: Surface Mount (SMD - SMT); Voltage_-_Working: 15V; Number_of_Terminations: 2; C: Copyright (C) 2015 Accelerated Designs. All rights reserved; DigiKeyPartNumber: P0.0AGTR-ND; Quantity_Available: 1650000; Copyright: Copyright (C) 2015 Accelerated Designs. All rights reserved; DataSheet: http://industrial.panasonic.com/www-data/pdf/AOA0000/AOA0000CE2.pdf; Case: 0201 (0603 metric); Packaging: Tape &amp; Reel (TR); Composition: Thick Film; Temperature_Coefficient: -; Resistance_(Ohms): 0.0; Features: -; Package_/_Case: 0201 (0603 Metric); Size_/_Dimension: 0.024" L x 0.012" W (0.60mm x 0.30mm); Height: 0.010" (0.26mm); Supplier 1: Digi-Key
footprint RC0201N
pins: 1, 2

## ERJ-1GEF5761C
designator R??  Resistance_(Ohms): 5.76K  (hidden comment: *)
RES 5.76K OHM 0201 1% 1/20W; Manufacturer: Panasonic; Manufacturer Part Number: ERJ-1GEF5761C; Power_(Watts): 0.05W, 1/20W; Tolerance: Â±1%; Lead_Style: Surface Mount (SMD - SMT); Voltage_-_Working: 15V; Temperature_Coefficient: Â±200ppm/Â°C; Number_of_Terminations: 2; C: Copyright (C) 2015 Accelerated Designs. All rights reserved; DigiKeyPartNumber: P4.70KABTR-ND; Quantity_Available: 0; Copyright: Copyright (C) 2015 Accelerated Designs. All rights reserved; DataSheet: http://industrial.panasonic.com/www-data/pdf/AOA0000/AOA0000CE2.pdf; Resistance_In_Ohms: 5.76K; Case: 0201 (0603 metric); Packaging: Tape &amp; Reel (TR); Composition: Thick Film; Features: -; Package_/_Case: 0201 (0603 Metric); Size_/_Dimension: 0.024" L x 0.012" W (0.60mm x 0.30mm); Height: 0.010" (0.26mm); Value: Value; Supplier 1: Digi-Key; Supplier Part Number 1: P5.76KABCT-ND
footprint RC0201N
pins: 1, 2

## Ferrite Bead
designator FB??  value 600R  (hidden comment: Ferrite Bead)
Manufacturer: TDK Corporation; Manufacturer Part Number: MPZ2012S601AT000; MCHP-ID: IND1162; Description_: FERRITE 2A 600R SMD 0805; Dev Tools Status: Production; Owner: Randolph Sobrepena; DCR: 100M; Test Frequency: 100MHz; Populated: YES; Revision: 1; Symbol: Ferrite Bead; Status: MCL Design; ComponentLink1URL: https://chn-vm-apps.microchip.com/mchprepo/parts/Datasheets/beads_commercial_power_mpz_en; ComponentLink1Description: Datasheet; Package: 0805; Type: Ferrite Bead; Category: Inductor; Supplier 1: Digi-Key; Supplier Part Number 1: 445-2206-1-ND; Quantity Override: 1
footprint IND_C_0805 (Chip Inductor, 2-Leads, Body 2.0x1.3mm, IPC Medium Density)
pins: 1, 2
2 alternate drawings of the same symbol

## FIN1019MTCX
designator U??
IC DRVR/RCVR3.3V LVDS HS 14TSSOP; Manufacturer: Fairchild/ON Semiconductor; Manufacturer Part Number: FIN1019MTCX; Detailed Description: 1/1 Transceiver Full LVDS 14-TSSOP; Number of Drivers/Receivers: 1/1; Duplex: Full; Voltage - Supply: 3 V ~ 3.6 V; Data Rate: 400Mbps; Digi-Key Part Number: FIN1019MTCXCT-ND; Type: Transceiver; Protocol: LVDS; Supplier Device Package: 14-TSSOP; Mounting Type: Surface Mount; Package / Case: 14-TSSOP (0.173", 4.40mm Width); Supplier 1: Digi-Key; Supplier Part Number 1: FIN1019MTCXCT-ND
footprint TSOP65P640X120-14N (TSOP, 14-Leads, Body 5.00x4.40mm, Pitch 0.65mm, IPC Medium Density)
pins: 1 DE (power), 2 DIN (power), 3 NC (power), 4 ROUT (power), 5 NC (power), 6 NC (power), 7 GND (power), 8 /RE (power), 9 RIN- (power), 10 RIN+ (power), 11 DOUT- (power), 12 DOUT+ (power), 13 NC (power), 14 VCC (power)

## GB042-34P-H10
designator SD??
Connector, eMMC
footprint GB042-34P-H10
pins: 1, 2, 3, 4, 5, 6, 7, 8, 9, 10, 11, 12, 13, 14, 15, 16, 17, 18, 19, 20, 21, 22, 23, 24, 25, 26, 27, 28, 29, 30, 31, 32, 33, 34

## GRM033R61A225KE47D
designator C??  value 2.2uF  (hidden comment: GRM033R61A225KE47D)
Multilayer Ceramic Capacitors MLCC - SMD/SMT 0201 2.2uF 10volts *Derate Voltage/Temp; Manufacturer: Murata Electronics; Geometry.Height: 0.33mm; Supplier_Name: RS; RS Part Number: *; Other Part Number: *; Datasheet Link: http://www.murata.com/~/media/webrenewal/support/library/catalog/products/capacitor/mlcc/c02e.pdf; Supplier 1: Digi-Key; Supplier Part Number 1: 490-13227-1-ND; Manufacturer Part Number: GRM033R61A225KE47D
footprint CAPC0603X33N
pins: 1, 2

## Header 1x2
designator J??, comment HDR-2.54 Male 1x2  (value not drawn)
CONN HEADER 2POS .100" SGL GOLD; Part Checked: Jennifer Hancock; Manufacturer Part Number: TSW-102-07-G-S; Manufacturer: Samtec; Description_: CON HDR-2.54 MALE 1x2 GOLD 5.84MH TH VERT; Populated: Yes; Package: Through Hole; Supplier 1: Digi-Key; Supplier Part Number 1: SAM1029-02-ND; Value: HDR-2.54 Male 1x2; Part Footprint Checked: *; Part Golden: Jennifer Hancock; Part 3D Model Checked: Jennifer Hancock; Manufacturer 2: FCI; Manufacturer Part Number 2: 68000-236HLF; Revision Date: 08/14/2015; Tolerance: *; Rating: *; Owner: *; Document Link: //depot_np_hweng_boards/altium_libraries/datasheets/Samtec/TSW_TH.pdf
footprint HDR_M_2.54_1x2 (Header Male Vertical 2 Way 2.54mm Pitch)
pins: 1 P1, 2 P2
1 alternate drawing of the same symbol

## Inductor
designator L??  value 1uH  (hidden comment: Inductor)
Manufacturer 1: Taiyo Yuden; Manufacturer Part Number 1: NR3015T1R0N; MCHP-ID: IND1027; Description_: INDUCTOR 1uH 2.1A 30% SMD L3W3H1.5; Dev Tools Status: Production; Owner: Tad Ahlvers; DCR: 0.036R; Saturation Current: 2.1A; Test Frequency: 100kHz; Populated: YES; Revision: 1; Status: MCL Design; ComponentLink1URL: https://chn-vm-apps.microchip.com/mchprepo/parts/Datasheets/NR3015T1R0N.pdf; ComponentLink1Description: Datasheet; Operating Temperature: -25C to +120C; Package: L3W3H1.5; Type: Inductor; Category: Inductor; Supplier 1: Digi-Key; Supplier Part Number 1: 587-1647-1-ND; Quantity Override: 1
footprint IND_TAI_NR_L3W3H1.5
pins: 1 S, 2 F
2 alternate drawings of the same symbol

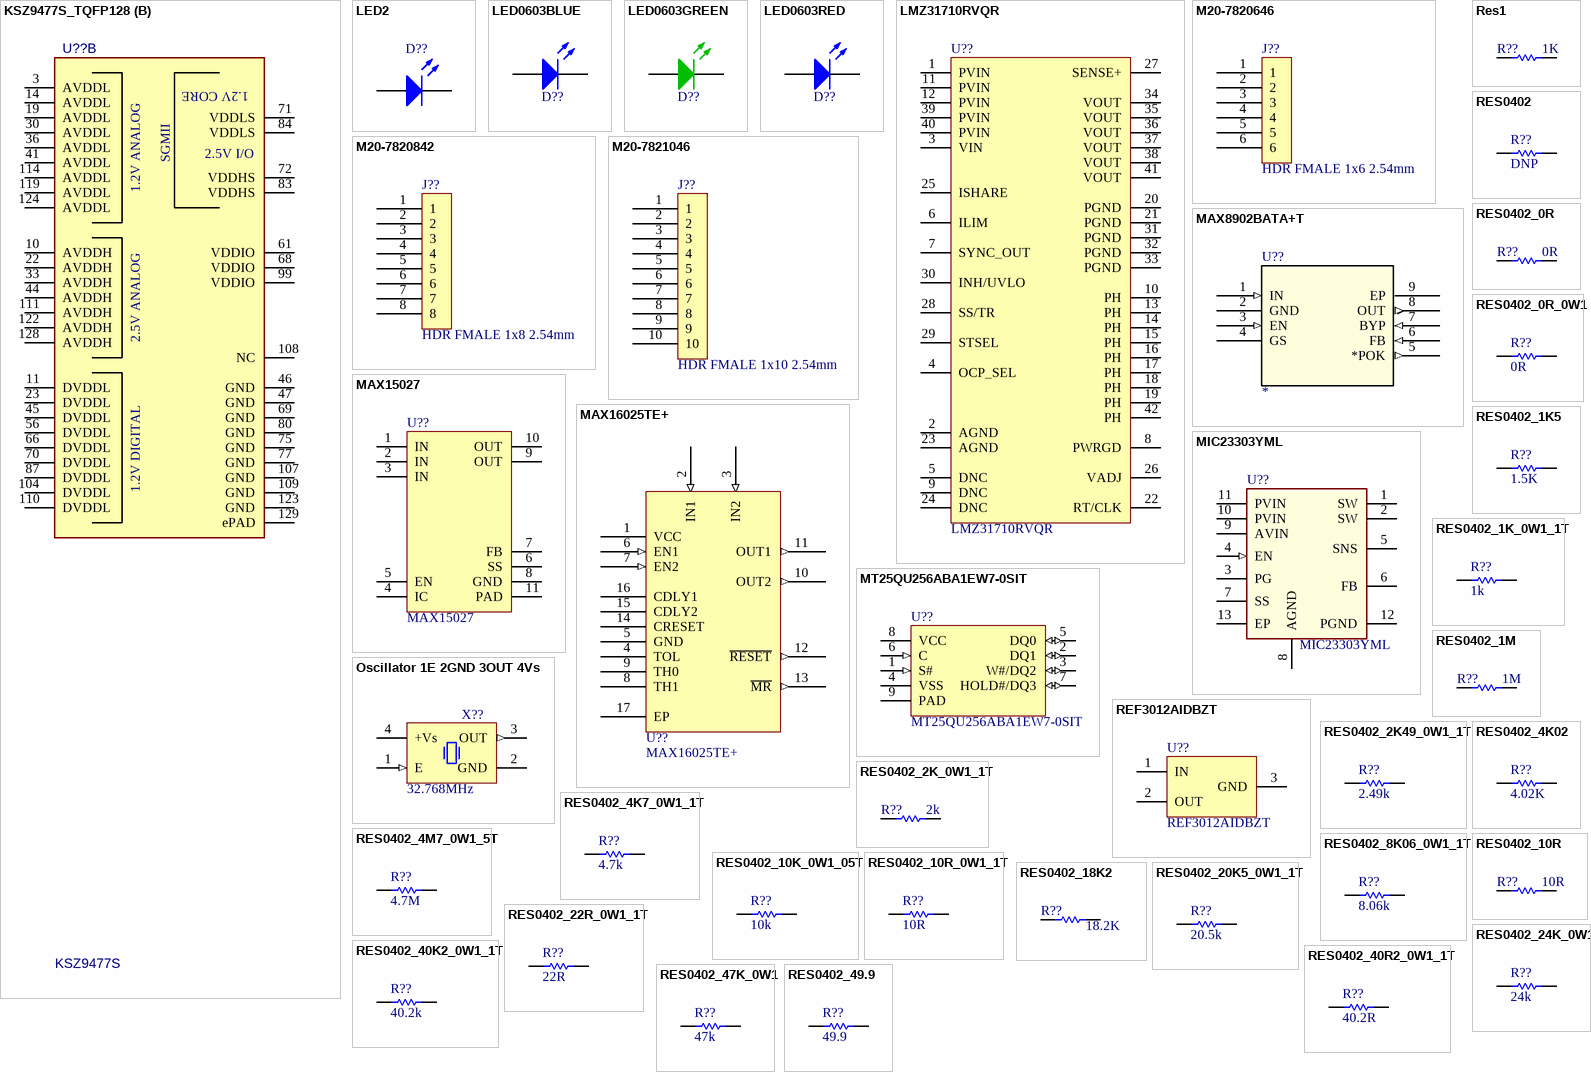
[diagram p2: symbols KSZ9477S_TQFP128 to RES0402_49.9]

## KSZ9477S_TQFP128
designator U??, comment KSZ9477S
IC, 7-Port Gigabit Ethernet Switch with 2 RGMII / MII / RMII Interfaces, TQFP128; Manufacturer: Micrel; Populated: Yes; Owner: sam charles; Description_: IC, 7-Port Gigabit Ethernet Switch with 2 RGMII / MII / RMII Interfaces, TQFP128; Revision Date: 06/03/2016; RoHS: Yes; Package: TQFP128-14x14; Document Link: http://nyusperforce.smsc.com//depot_np_hweng_boards/altium_libraries/datasheets/_Microchip/_Micrel/KSZ9897R.pdf; Status: New; Value: KSZ9477S; Manufacturer Part Number: KSZ9477S
footprint TQFP-128_14x14_EP10x10 (TSQFP, 128-Leads, Body 14.00x14.00mm, Pitch 0.40mm, 10mm Epad, IPC Medium Density)
part A pins: 1 TXRX1P_A (io), 2 TXRX1M_A (io), 4 TXRX1P_B (io), 5 TXRX1M_B (io), 6 TXRX1P_C (io), 7 TXRX1M_C (io), 8 TXRX1P_D (io), 9 TXRX1M_D (io), 12 TXRX2P_A (io), 13 TXRX2M_A (io), 15 TXRX2P_B (io), 16 TXRX2M_B (io), 17 TXRX2P_C (io), 18 TXRX2M_C (io), 20 TXRX2P_D (io), 21 TXRX2M_D (io), 24 TXRX3P_A (io), 25 TXRX3M_A (io), 26 TXRX3P_B (io), 27 TXRX3M_B (io), 28 TXRX3P_C (io), 29 TXRX3M_C (io), 31 TXRX3P_D (io), 32 TXRX3M_D (io), 34 TXRX4P_A (io), 35 TXRX4M_A (io), 37 TXRX4P_B (io), 38 TXRX4M_B (io), 39 TXRX4P_C (io), 40 TXRX4M_C (io), 42 TXRX4P_D (io), 43 TXRX4M_D (io), 48 TX_CLK6/REFCLKI6 (io), 49 TX_EN6/TX_CTL6 (in), 50 TX_ER6 (in), 51 COL6 (io), 52 TXD6_3 (in), 53 TXD6_2 (in), 54 TXD6_1 (in), 55 TXD6_0 (io), 57 RX_CLK6/REFCLKO6 (io), 58 RX_DV6/CRS_DV6/RX_CTL6 (io), 59 RX_ER6 (io), 60 CRS6 (io), 62 RXD6_3 (io), 63 RXD6_2 (io), 64 RXD6_1 (io), 65 RXD6_0 (io), 67 IBA (in), 73 S_REFCLKP (in), 74 S_REFCLKM (in), 76 S_REXT (io), 78 S_IN7M (in), 79 S_IN7P (in), 81 S_OUT7P (out), 82 S_OUT7M (out), 85 LED4_0 (io), 86 LED4_1 (io), 88 LED3_0 (io), 89 LED3_1 (io), 90 GPIO_1 (io), 91 LED2_0 (io), 92 LED2_1 (io), 93 PME_N (out), 94 INTRP_N (out), 95 SYNCLKO (io), 96 RESET_N (in), 97 SDO (out), 98 SDI/SDA/MDIO (io), 100 SCS_N (in), 101 SCL/MDC (in), 102 LED5_0 (io), 103 LED5_1 (io), 105 LED1_0 (io), 106 LED1_1 (io), 112 TXRX5P_A (io), 113 TXRX5M_A (io), 115 TXRX5P_B (io), 116 TXRX5M_B (io), 117 TXRX5P_C (io), 118 TXRX5M_C (io), 120 TXRX5P_D (io), 121 TXRX5M_D (io), 125 X0 (out), 126 XI (in), 127 ISET
part B pins: 3 AVDDL (power), 10 AVDDH (power), 11 DVDDL (power), 14 AVDDL (power), 19 AVDDL (power), 22 AVDDH (power), 23 DVDDL (power), 30 AVDDL (power), 33 AVDDH (power), 36 AVDDL (power), 41 AVDDL (power), 44 AVDDH (power), 45 DVDDL (power), 46 GND (power), 47 GND (power), 56 DVDDL (power), 61 VDDIO (power), 66 DVDDL (power), 68 VDDIO (power), 69 GND (power), 70 DVDDL (power), 71 VDDLS (power), 72 VDDHS (power), 75 GND (power), 77 GND (power), 80 GND (power), 83 VDDHS (power), 84 VDDLS (power), 87 DVDDL (power), 99 VDDIO (power), 104 DVDDL (power), 107 GND (power), 108 NC, 109 GND (power), 110 DVDDL (power), 111 AVDDH (power), 114 AVDDL (power), 119 AVDDL (power), 122 AVDDH (power), 123 GND (power), 124 AVDDL (power), 128 AVDDH (power), 129 ePAD (power)
part A text: MII/RMII/RGMII; SGMII; CONTROL; SPI; CLK
part B text: 1.2V CORE; SGMII; 2.5V I/O; 1.2V ANALOG; 2.5V ANALOG; 1.2V DIGITAL

## LED2
designator D??
Typical RED, GREEN, YELLOW, AMBER GaAs LED; Published: 8-Jun-2000; LatestRevisionDate: 17-Jul-2002; LatestRevisionNote: Re-released for DXP Platform.; PackageVersion: Feb-2002; PackageReference: 3.2X1.6X1.1; Publisher: Altium Limited; PackageDescription: SM LED; 2 Flat Leads
footprint 3.2X1.6X1.1 (SMT LED; 2 Flat Leads)
simulation model LED2 (Diode)
pins: 1 A, 2 K

## LED0603BLUE
designator D??
LED BLUE DIFFUSED 0603 SMD; Manufacturer: Broadcom Limited; Manufacturer Part Number: HSMR-C191; Voltage - Forward (Vf) (Typ): 3.4V; Current - Test: 20mA; Package: 0603; Supplier 1: Digi-Key; Supplier Part Number 1: 516-2523-1-ND; ComponentLink1Description: Datasheet; ComponentLink1URL: C:\Users\Public\Documents\Altium\AD16\Library\PDF\AV02-0592EN0.pdf
footprint LED0603BLUE (1.6x0.8mm LED)
pins: 1 A, 2 K

## LED0603GREEN
designator D??
LED GREEN DIFFUSED 0603 SMD; Manufacturer: Broadcom Limited; Manufacturer Part Number: HSMM-C190; Voltage - Forward (Vf) (Typ): 3.3V; Current - Test: 20mA; Package: 0603; Supplier 1: Digi-Key; Supplier Part Number 1: 516-2833-1-ND; ComponentLink1Description: Datasheet; ComponentLink1URL: C:\Users\Public\Documents\Altium\AD16\Library\PDF\AV02-0592EN0.pdf
footprint LED0603GREEN (1.6x0.8mm LED)
pins: 1 A, 2 K

## LED0603RED
designator D??
LED RED DIFFUSED 0603 SMD; Manufacturer: Broadcom Limited; Manufacturer Part Number: HSMH-C191; Voltage - Forward (Vf) (Typ): 1.8V; Current - Test: 20mA; Package: 0603; Supplier 1: Digi-Key; Supplier Part Number 1: 516-3067-1-ND; ComponentLink1Description: Datasheet; ComponentLink1URL: C:\Users\Public\Documents\Altium\AD16\Library\PDF\AV02-0592EN0.pdf
footprint LED0603RED (1.6x0.8mm LED)
pins: 1 A, 2 K

## LMZ31710RVQR
designator U??
DC/DC CONVERTER 0.6-5.5V 55W; Manufacturer: Texas Instruments; ComponentLink1Description: Datasheet; ComponentLink1URL: C:\Users\Public\Documents\Altium\AD16\Library\PDF\lmz31710.pdf; Supplier 1: Digikey; Supplier Part Number 1: 296-43646-1-ND; Operating Temperature: -40°C ~ 85°C; Manufacturer Part Number: LMZ31710RVQR
footprint LMZ31710RVQR (TI RVQ PAckage Regulator)
pins: 1 PVIN (power), 2 AGND (power), 3 VIN (power), 4 OCP_SEL (power), 5 DNC (power), 6 ILIM (power), 7 SYNC_OUT (power), 8 PWRGD (power), 9 DNC (power), 10 PH (power), 11 PVIN (power), 12 PVIN (power), 13 PH (power), 14 PH (power), 15 PH (power), 16 PH (power), 17 PH (power), 18 PH (power), 19 PH (power), 20 PGND (power), 21 PGND (power), 22 RT/CLK (power), 23 AGND (power), 24 DNC (power), 25 ISHARE (power), 26 VADJ (power), 27 SENSE+ (power), 28 SS/TR (power), 29 STSEL (power), 30 INH/UVLO (power), 31 PGND (power), 32 PGND (power), 33 PGND (power), 34 VOUT (power), 35 VOUT (power), 36 VOUT (power), 37 VOUT (power), 38 VOUT (power), 39 PVIN (power), 40 PVIN (power), 41 VOUT (power), 42 PH (power)

## M20-7820646
designator J??, comment HDR FMALE 1x6 2.54mm
06-WAY SIL VERT SOCKET L/FREE; Manufacturer: Harwin Inc; Manufacturer Part Number: M20-7820646; Connector Type: Receptacle; Number of Positions: 6; Number of Positions Loaded: All; Pitch: 0.100" (2.54mm); .Checked PCB: MM; Supplier 1: Digi-Key; RoHS: RoHS Compliant; Category: Connectors, Interconnects; Stock 1: 87; Pricing 1: 1=0.96, 38=0.79211, 76=0.75895, 114=0.72596, 266=0.66, 532=0.594, 1026=0.528, 2508=0.4785 (USD); Packaging: Tube; Contact Type: Female Socket; Number of Rows: 1; Row Spacing: -; Mounting Type: Through Hole; Termination: Solder; Fastening Type: -; Features: -; Contact Finish: Tin; Contact Finish Thickness: -; Color: Black; ComponentLink1URL: http://harwin.com/includes/pdfs/M20-782.pdf; ComponentLink1Description: http://harwin.com/includes/pdfs/M20-782.pdf; Supplier Part Number 1: 952-1809-ND; .Checked SCH: MM; .Creator: MM
footprint Hdr_Female_1x6_2.54mm (Creator MM)
pins: 1, 2, 3, 4, 5, 6

## M20-7820842
designator J??, comment HDR FMALE 1x8 2.54mm
08-WAY SIL VERT SOCKET L/FREE; Manufacturer: Harwin Inc; Manufacturer Part Number: M20-7820842; Connector Type: Receptacle; Number of Positions: 8; Number of Positions Loaded: All; Pitch: 0.100" (2.54mm); .Creator: MM; .Checked PCB: RF; Supplier 1: Digi-Key; RoHS: RoHS Compliant; Category: Connectors, Interconnects; Stock 1: 2070; Pricing 1: 1=1.1, 29=0.91207, 58=0.87397, 116=0.83603, 261=0.76, 522=0.684, 1015=0.608, 2523=0.551 (USD); Packaging: Tube; Contact Type: Female Socket; Number of Rows: 1; Row Spacing: -; Mounting Type: Through Hole; Termination: Solder; Fastening Type: -; Features: -; Contact Finish: Gold; Contact Finish Thickness: Flash; Color: Black; ComponentLink1URL: http://harwin.com/includes/pdfs/M20-782.pdf; ComponentLink1Description: http://harwin.com/includes/pdfs/M20-782.pdf; Supplier Part Number 1: 952-1823-ND; .Checked SCH: RF
footprint Hdr_Female_1x8_2.54mm (Creator MM)
pins: 1, 2, 3, 4, 5, 6, 7, 8

## M20-7821046
designator J??, comment HDR FMALE 1x10 2.54mm
10-WAY SIL VERT SOCKET L/FREE; Manufacturer: Harwin Inc; Manufacturer Part Number: M20-7821046; Connector Type: Receptacle; Number of Positions: 10; Number of Positions Loaded: All; Pitch: 0.100" (2.54mm); .Creator: MM; .Checked PCB: RF; Supplier 1: Digi-Key; RoHS: RoHS Compliant; Category: Connectors, Interconnects; Stock 1: 214; Pricing 1: 1=1.28, 23=1.12217, 46=1.05609, 69=1.01203, 115=0.968, 253=0.88, 506=0.792, 1012=0.704, 2507=0.638 (USD); Packaging: Tube; Contact Type: Female Socket; Number of Rows: 1; Row Spacing: -; Mounting Type: Through Hole; Termination: Solder; Fastening Type: -; Features: -; Contact Finish: Tin; Contact Finish Thickness: -; Color: Black; ComponentLink1URL: http://harwin.com/includes/pdfs/M20-782.pdf; ComponentLink1Description: http://harwin.com/includes/pdfs/M20-782.pdf; Supplier Part Number 1: 952-1847-ND; .Checked SCH: RF
footprint Hdr_Female_1x10_2.54mm (Creator MM)
pins: 1, 2, 3, 4, 5, 6, 7, 8, 9, 10

## MAX8902BATA+T
designator U??
IC REG LDO ADJ 0.5A 8TDFN; Manufacturer: Maxim Integrated Products; Manufacturer Part Number: MAX8902BATA+T; C: Copyright (C) 2015 Accelerated Designs. All rights reserved; Copyright: Copyright (C) 2015 Accelerated Designs. All rights reserved; Value: Value; Type: Type; RefDes: RefDes; Supplier 1: Digi-Key; Supplier Part Number 1: MAX8902BATA+TCT-ND
footprint 21-0168E_T822-1
pins: 1 IN (in), 2 GND (power), 3 EN (in), 4 GS, 5 *POK (out), 6 FB (in), 7 BYP (in), 8 OUT (out), 9 EP

## MAX15027
designator U??
IC REG LINEAR POS ADJ 1A 10TDFN; Manufacturer: Maxim Integrated; Manufacturer Part Number: MAX15027ATB+T; ComponentLink1Description: Datasheet; ComponentLink1URL: C:\Users\Public\Documents\Altium\AD16\Library\PDF\MAX15027-MAX15028.pdf; Supplier 1: Digi-Key; Supplier Part Number 1: MAX15027ATB+TCT-ND; Operating Temperature: -40°C ~ 125°C
footprint MAX15027_T1033+1_V (SON, 10-Leads, Body 3x3mm, Pitch 0.5mm, Thermal Pad 2.35x1.58mm, Maxim Recommended)
pins: 1 IN, 2 IN, 3 IN, 4 IC, 5 EN, 6 SS, 7 FB, 8 GND, 9 OUT, 10 OUT, 11 PAD